# Altium integrated library PV36W103C01B00.IntLib: 1 symbol
Pins are listed as number, name and electrical type; pins without a type are passive.

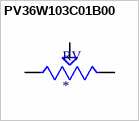
[diagram p0: symbol PV36W103C01B00]

## PV36W103C01B00
designator RV
10 kOhms 0.5W, 1/2W PC Pins Through Hole Trimmer Potentiometer Cermet 25 Turn Top Adjustment; MP: PV36W103C01B00; MF: Bourns; Availability: Unavailable; Price: None; Value: *; SnapEDA_Link: https://www.snapeda.com/parts/PV36W103C01B00/Bourns/view-part/1439094/?ref=snap; Package: 6332 Bourns
footprint TRIM_PV36W103C01B00
pins: 1, 2, 3